# EAGLE library part ATXCON (library ATX)
Mini FIT connector 20 pol ATX PC-Motherboard Power connector Source: http://www.molex.com
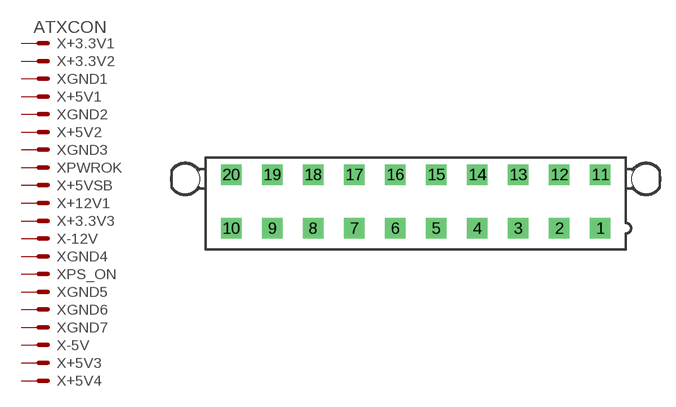
[diagram p0: symbol with the pads of 5566-20; footprint 5566-20]

Designator prefix X; gates +3.3V1=MV +3.3V2=M GND1=M +5V1=M GND2=M +5V2=M GND3=M PWROK=M +5VSB=M +12V1=M +3.3V3=M -12V=M GND4=M PS_ON=M GND5=M GND6=M GND7=M -5V=M +5V3=M +5V4=M

## ATXCON (OC_FARNELL: unknown; OC_NEWARK: unknown)  [5566-20]
1  +3.3V1:S  pas
2  +3.3V2:S  pas
3  GND1:S  pas
4  +5V1:S  pas
5  GND2:S  pas
6  +5V2:S  pas
7  GND3:S  pas
8  PWROK:S  pas
9  +5VSB:S  pas
10  +12V1:S  pas
11  +3.3V3:S  pas
12  -12V:S  pas
13  GND4:S  pas
14  PS_ON:S  pas
15  GND5:S  pas
16  GND6:S  pas
17  GND7:S  pas
18  -5V:S  pas
19  +5V3:S  pas
20  +5V4:S  pas

## Footprint 5566-20 (pad centres in mm)
Mini FIT connector 20 pol ATX PC-Motherboard Power connector Source: http://www.molex.com
drill 1.4 square: 1 18.9,-2.75; 2 14.7,-2.75; 3 10.5,-2.75; 4 6.3,-2.75; 5 2.1,-2.75; 6 -2.1,-2.75; 7 -6.3,-2.75; 8 -10.5,-2.75; 9 -14.7,-2.75; 10 -18.9,-2.75; 11 18.9,2.75; 12 14.7,2.75; 13 10.5,2.75; 14 6.3,2.75; 15 2.1,2.75; 16 -2.1,2.75; 17 -6.3,2.75; 18 -10.5,2.75; 19 -14.7,2.75; 20 -18.9,2.75
hole 3 at 23.6,2.29
hole 3 at -23.6,2.29